# Altium integrated library LM2587S-ADJ.IntLib: 1 symbol
Pins are listed as number, name and electrical type; pins without a type are passive.

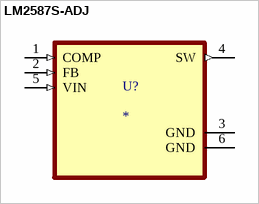
[diagram p0: symbol LM2587S-ADJ]

## LM2587S-ADJ
designator U?
MP: LM2587S-ADJ/NOPB; Package: None; Price: None; Value: *; Availability: Unavailable
footprint VREG_TPS79625KTTR
pins: 1 COMP (in), 2 FB (in), 3 GND (power), 4 SW (out), 5 VIN (in), 6 GND (power)